# Altium schematic symbol library AD8232.SchLib: 1 symbol
Pins are listed as number, name and electrical type; pins without a type are passive.

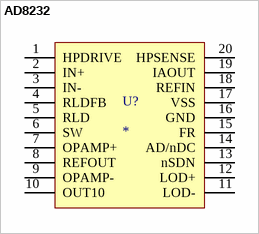
[diagram p0: symbol AD8232]

## AD8232
designator U?
pins: 1 HPDRIVE, 2 IN+, 3 IN-, 4 RLDFB, 5 RLD, 6 SW, 7 OPAMP+, 8 REFOUT, 9 OPAMP-, 10 OUT10, 11 LOD-, 12 LOD+, 13 nSDN, 14 AD/nDC, 15 FR, 16 GND, 17 VSS, 18 REFIN, 19 IAOUT, 20 HPSENSE